# Altium footprint library PCB - CONNECTOR - CUI - CUI RCJ-04.PCBLIB: 1 footprints
Each footprint in its own frame and in the unit in brackets; x right, y up, seen from the top. Pads: shape width x height; smd on the part's side, far side on the other; paste and mask are expansions set on the pad; w line width, h text height; cw(c..) or ccw(c..) is an arc to the next point about the centre after c.
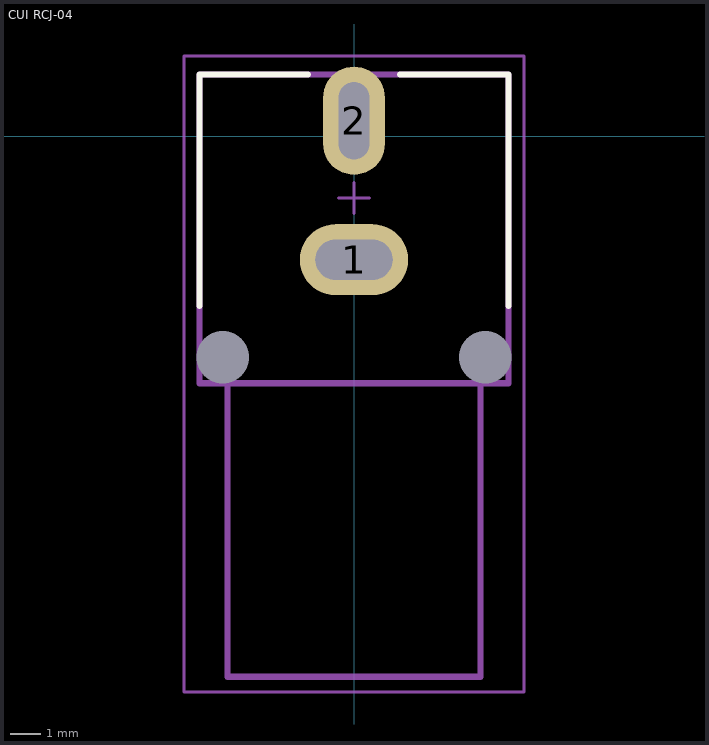
[diagram p0: the footprint, top view; thin cyan lines are the x and y axes]

## CUI RCJ-04 [mm] "3.20mm ID, 9.00mm OD (RCA) Phono (RCA) Jack Mono Connector Solder"
height 11.5
pads (4):
  oval 3.5x2.3 hole 1.3 slot 2.5 at 0 deg: 1(0,-4)
  oval 2x3.5 hole 1 slot 2.5 at 90 deg: 2(0,0.5)
  round 0 hole 1.7 square unplated: M(-4.25,-7.15) M(4.25,-7.15)
Top Overlay:
  lines w0.2: -5,-5.5 -5,2 -1.5,2 ; 1.5,2 5,2 5,-5.5
Top Assembly:
  lines w0.2: -4.1,-8 -4.1,-17.5 4.1,-17.5 4.1,-8 ; -0.5,0 0.5,0 ; 0,-0.5 0,0.5 ; -5,-8 5,-8 5,2 -5,2 -5,-8
Top Courtyard (Mech15):
  lines w0.1: -0.5,-2 0.5,-2 ; 0,-2.5 0,-1.5 ; -5.5,-18 -5.5,2.6 5.5,2.6 5.5,-18 -5.5,-18
3D body "CUI - RCJ-044.step": height 11.5, standoff -4, extent -4.975,-17.4 5.025,2.1